# Altium schematic symbol library GRM033R61A562JA01D.SchLib: 1 symbol
Pins are listed as number, name and electrical type; pins without a type are passive.

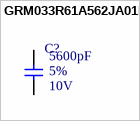
[diagram p0: symbol GRM033R61A562JA01D]

## GRM033R61A562JA01D
designator C?  Rated Voltage: 10V  Tolerance: 5%  Capacitence: 5600pF  (hidden comment: GRM033R61A562JA01D)
CAP CER MLCC; MFR: Murata Electronics; Temperature Coefficient: X5R; PN: GRM033R61A562JA01D; ComponentLink1Description: Datasheet; ComponentLink1URL: https://www.mouser.com/ProductDetail/Murata-Electronics/GRM033R61A562JA01D?qs=2W5sgKM%2F370T3wkDqbj5mA%3D%3D; Package: 0201; Footprint: C0201; Supplier 1: Avnet; Supplier Part Number 1: GRM033R61A562JA01D
footprint C0201
pins: 1, 2